# EAGLE library part S5718-ND (library heatseek_hub_smd_lib)
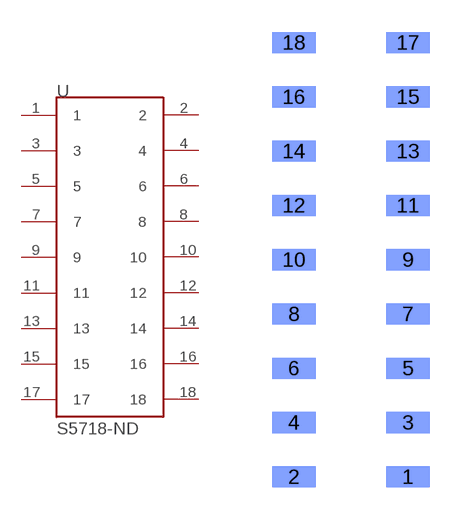
[diagram p0: symbol with the pads of CONN_HEADER_SMD_18; footprint CONN_HEADER_SMD_18]

Designator prefix -

## S5718-NDSMD  [CONN_HEADER_SMD_18]
1  1
2  2
3  3
4  4
5  5
6  6
7  7
8  8
9  9
10  10
11  11
12  12
13  13
14  14
15  15
16  16
17  17
18  18

## Footprint CONN_HEADER_SMD_18 (pad centres in mm)
smd 2.032 x 0.991 bottom: 1 2.667,-10.16; 2 -2.667,-10.16; 3 2.667,-7.62; 4 -2.667,-7.62; 5 2.667,-5.08; 6 -2.667,-5.08; 7 2.667,-2.54; 8 -2.667,-2.54; 9 2.667,0; 10 -2.667,0; 11 2.667,2.54; 12 -2.667,2.54; 13 2.667,5.08; 14 -2.667,5.08; 15 2.667,7.62; 16 -2.667,7.62; 17 2.667,10.16; 18 -2.667,10.16